# Altium footprint library TIL-6V.PcbLib: 1 footprints
Each footprint in its own frame and in the unit in brackets; x right, y up, seen from the top. Pads: shape width x height; smd on the part's side, far side on the other; paste and mask are expansions set on the pad; w line width, h text height; cw(c..) or ccw(c..) is an arc to the next point about the centre after c.
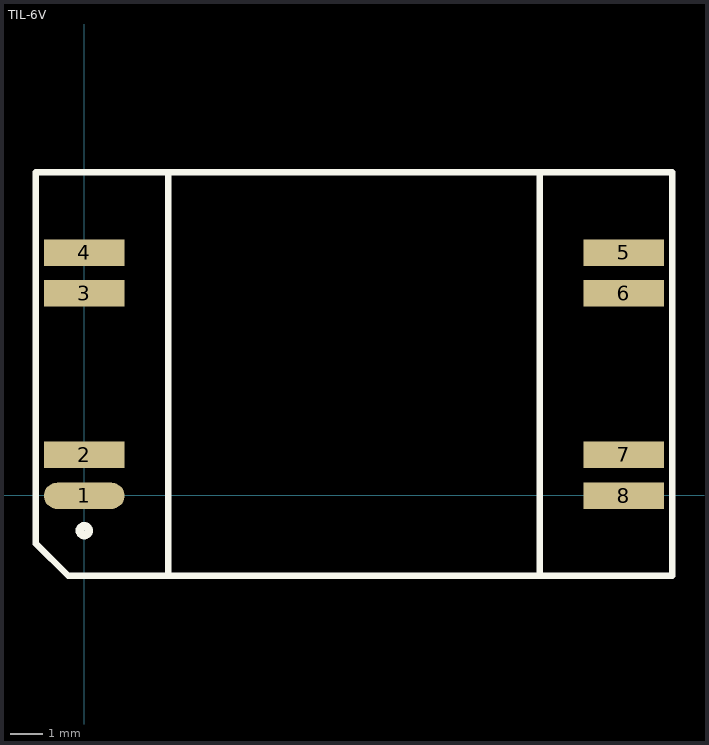
[diagram p0: the footprint, top view; thin cyan lines are the x and y axes]

## TIL-6V [mm]
pads (8):
  oval 2.5x0.813 smd: 1(0,-0.02)
  rect 2.5x0.813 smd: 2(0,1.25) 3(0,6.25) 4(0,7.5) 5(16.7,7.5) 6(16.7,6.25) 7(16.7,1.25) 8(16.7,-0.02)
TopOverlay:
  circle w0.254: c0,-1.1 r0.141
  lines w0.2: 2.6,-2.5 2.6,10 ; 14.1,-2.5 14.1,10 ; -1.5,-1.5 -0.5,-2.5 18.2,-2.5 18.2,10 -1.5,10 -1.5,-1.5
Mechanical15:
  text "'.Designator'" at -0.93,3.02 h2
3D body "TIL-6V.STEP": height 6.5, standoff 0, extent -1.2,-2.5 17.8,10